# Altium footprint library diodes-inc-packages.PcbLib: 29 footprints (part 2 of 2)
Each footprint in its own frame and in the unit in brackets; x right, y up, seen from the top. Pads: shape width x height; smd on the part's side, far side on the other; paste and mask are expansions set on the pad; w line width, h text height; cw(c..) or ccw(c..) is an arc to the next point about the centre after c.
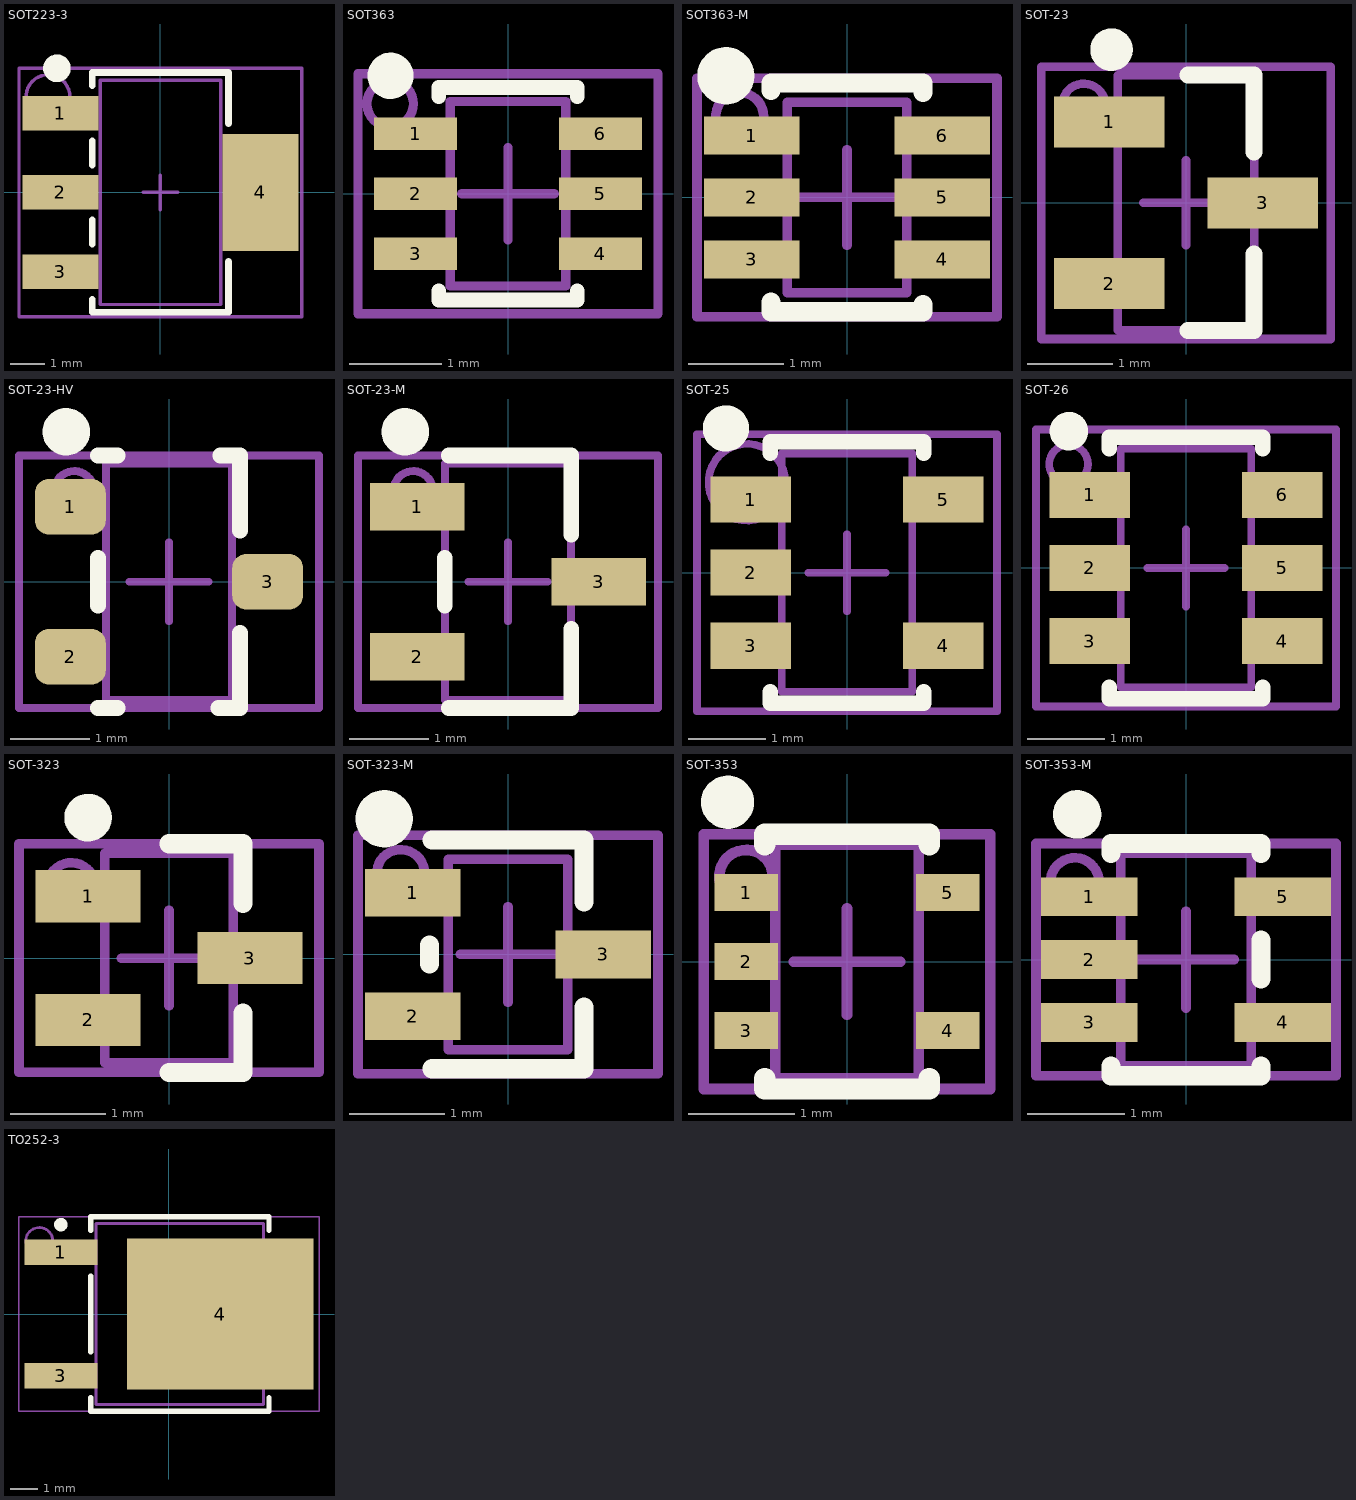
[diagram p1: the footprints below, top view; thin cyan lines are the x and y axes]

## SOT223-3 [mm] "3-Lead Plastic Small Outline Transistor"
height 1.8
pads (4):
  rect 2.2x1 smd: 1(-2.9,2.3) 2(-2.9,0) 3(-2.9,-2.3)
  rect 2.2x3.4 smd: 4(2.9,0)
Top Overlay:
  circle w0.4: c-3,3.6 r0.2
  lines w0.2: -1.975,-3.1 -1.975,-3.475 1.975,-3.475 1.975,-2 ; -1.975,-1.5 -1.975,-0.8 ; -1.975,0.8 -1.975,1.5 ; -1.975,3.1 -1.975,3.475 1.975,3.475 1.975,2
Mechanical 13:
  lines w0.1: -0.5,0 0.5,0 ; 0,-0.5 0,0.5 ; -1.75,-3.25 1.75,-3.25 1.75,3.25 -1.75,3.25 -1.75,-3.25
Mechanical 15:
  circle w0.1: c-3.261,2.775 r0.636
  lines w0.1: -4.1,-3.6 4.1,-3.6 4.1,3.6 -4.1,3.6 -4.1,-3.6
  text ".Designator" at -0.1,2.575 h0.5
3D body "SW3DPS-SOT-223-DEFAULT.step": height 1.66, standoff -0.02, extent -3.48,-3.25 3.48,3.25

## SOT363 [mm] "6-Lead Plastic surface-mounted package, 0.65mm pitch, SOT363/SC-88"
height 1.1
pads (6):
  rect 0.9x0.35 smd: 1(-1,0.65) 2(-1,0) 3(-1,-0.65) 4(1,-0.65) 5(1,0) 6(1,0.65)
Top Overlay:
  circle w0.25: c-1.272,1.278 r0.125
  lines w0.16: -0.75,-1.05 -0.75,-1.15 0.75,-1.15 0.75,-1.05 ; -0.75,1.05 -0.75,1.15 0.75,1.15 0.75,1.05
Mechanical 13:
  lines w0.1: -0.5,0 0.5,0 ; 0,-0.5 0,0.5 ; -0.625,-1 0.625,-1 0.625,1 -0.625,1 -0.625,-1
Mechanical 15:
  circle w0.1: c-1.276,0.975 r0.251
  lines w0.1: -1.625,-1.3 1.625,-1.3 1.625,1.3 -1.625,1.3 -1.625,-1.3
  text ".Designator" at -0.2,1.125 h0.5
3D body "User Library-SW3dPS-SOT363.step": height 1.01, standoff 0.02, extent -1.05,-1 1.05,1

## SOT363-M [mm] "6-Lead Plastic surface-mounted package, 0.65mm pitch, SOT363/SC-88"
height 1.1
pads (6):
  rect 1x0.4 smd: 1(-1,0.65) 2(-1,0) 3(-1,-0.65) 4(1,-0.65) 5(1,0) 6(1,0.65)
Top Overlay:
  circle w0.3: c-1.272,1.278 r0.15
  lines w0.2: -0.8,-1.1 -0.8,-1.2 0.8,-1.2 0.8,-1.125 ; -0.8,1.125 -0.8,1.2 0.8,1.2 0.8,1.1
Mechanical 13:
  lines w0.1: -0.5,0 0.5,0 ; 0,-0.5 0,0.5 ; -0.625,-1 0.625,-1 0.625,1 -0.625,1 -0.625,-1
Mechanical 15:
  circle w0.1: c-1.126,0.85 r0.251
  lines w0.1: -1.575,-1.25 1.575,-1.25 1.575,1.25 -1.575,1.25 -1.575,-1.25
  text ".Designator" at -0.2,1.125 h0.5
3D body "User Library-SW3dPS-SOT363.step": height 1.01, standoff 0.02, extent -1.05,-1 1.05,1

## SOT-23 [mm] "SOT23, 3-Leads, Body 3.0x2.8mm (max), Pitch 0.95mm, IPC High Density"
height 1.4
pads (3):
  rect 1.3x0.6 smd: 1(-0.9,0.95) 2(-0.9,-0.95) 3(0.9,0)
Top Overlay:
  circle w0.25: c-0.875,1.8 r0.125
  lines w0.2: 0.025,-1.5 0.8,-1.5 0.8,-0.6 ; 0.025,1.5 0.8,1.5 0.8,0.6
Mechanical 13:
  lines w0.1: -0.5,0 0.5,0 ; 0,-0.5 0,0.5 ; -0.8,-1.5 0.8,-1.5 0.8,1.5 -0.8,1.5 -0.8,-1.5
Mechanical 15:
  circle w0.1: c-1.201,1.15 r0.251
  lines w0.1: -1.7,-1.6 1.7,-1.6 1.7,1.6 -1.7,1.6 -1.7,-1.6
  text ".Designator" at -0.2,1.325 h0.5
3D body "User Library-sot23-1.step": height 1.02, standoff 0.02, extent -1.17,-1.46 1.17,1.46

## SOT-23-HV [mm] "SOT23, 3-Leads, Body 3.0x2.8mm (max), Pitch 0.95mm, IPC High Density"
height 1.4
pads (3):
  rrect50% 0.9x0.7 smd: 1(-1.25,0.95) 2(-1.25,-0.95) 3(1.25,0)
Top Overlay:
  circle w0.3: c-1.3,1.9 r0.15
  lines w0.2: -0.9,-1.6 -0.65,-1.6 ; -0.9,-0.3 -0.9,0.3 ; -0.9,1.6 -0.65,1.6 ; 0.625,-1.6 0.9,-1.6 0.9,-0.65 ; 0.65,1.6 0.9,1.6 0.9,0.65
Mechanical 13:
  lines w0.1: -0.5,0 0.5,0 ; 0,-0.5 0,0.5 ; -0.8,-1.5 0.8,-1.5 0.8,1.5 -0.8,1.5 -0.8,-1.5
Mechanical 15:
  circle w0.1: c-1.201,1.15 r0.251
  lines w0.1: -1.9,-1.6 1.9,-1.6 1.9,1.6 -1.9,1.6 -1.9,-1.6
  text ".Designator" at -0.2,1.325 h0.8
3D body "User Library-sot23-1.step": height 1.02, standoff 0.02, extent -1.17,-1.46 1.17,1.46

## SOT-23-M [mm] "SOT23, 3-Leads, Body 3.0x2.8mm (max), Pitch 0.95mm, Medium Density"
height 1.4
pads (3):
  rect 1.2x0.6 smd: 1(-1.15,0.95) 2(-1.15,-0.95) 3(1.15,0)
Top Overlay:
  circle w0.3: c-1.3,1.9 r0.15
  lines w0.2: -0.8,-0.3 -0.8,0.3 ; -0.75,-1.6 0.8,-1.6 0.8,-0.6 ; -0.75,1.6 0.8,1.6 0.8,0.6
Mechanical 13:
  lines w0.1: -0.5,0 0.5,0 ; 0,-0.5 0,0.5 ; -0.8,-1.5 0.8,-1.5 0.8,1.5 -0.8,1.5 -0.8,-1.5
Mechanical 15:
  circle w0.1: c-1.201,1.15 r0.251
  lines w0.1: -1.9,-1.6 1.9,-1.6 1.9,1.6 -1.9,1.6 -1.9,-1.6
  text ".Designator" at -0.2,1.325 h0.5
3D body "User Library-sot23-1.step": height 1.02, standoff 0.02, extent -1.17,-1.46 1.17,1.46

## SOT-25 [mm] "5-Lead Plastic Small Outline Transistor - Medium Density"
height 1.45
pads (5):
  rect 1.05x0.6 smd: 1(-1.25,0.95) 2(-1.25,0) 3(-1.25,-0.95) 4(1.25,-0.95) 5(1.25,0.95)
Top Overlay:
  circle w0.3: c-1.575,1.875 r0.15
  lines w0.2: -1,-1.55 -1,-1.7 1,-1.7 1,-1.55 ; -1,1.55 -1,1.7 1,1.7 1,1.55
Mechanical 13:
  lines w0.1: -0.5,0 0.5,0 ; 0,-0.5 0,0.5 ; -0.85,-1.55 -0.85,1.55 0.85,1.55 0.85,-1.55 -0.85,-1.55
Mechanical 15:
  circle w0.1: c-1.3,1.175 r0.499
  lines w0.1: -1.95,-1.8 -1.95,1.8 1.95,1.8 1.95,-1.8 -1.95,-1.8
  text ".Designator" at -0.25,1.5 h0.8
3D body "SW3DPS-SOT-23-5-DEFAULT.STEP": height 1.09, standoff -0.01, extent -1.25,-1.5 1.25,1.5

## SOT-26 [mm] "6-Lead Plastic Small Outline Transistor - Medium Density"
height 1.45
pads (6):
  rect 1.05x0.6 smd: 1(-1.25,0.95) 2(-1.25,0) 3(-1.25,-0.95) 4(1.25,-0.95) 5(1.25,0) 6(1.25,0.95)
Top Overlay:
  circle w0.25: c-1.522,1.778 r0.125
  lines w0.2: -1,-1.55 -1,-1.7 1,-1.7 1,-1.55 ; -1,1.55 -1,1.7 1,1.7 1,1.55
Mechanical 13:
  lines w0.1: -0.5,0 0.5,0 ; 0,-0.5 0,0.5 ; -0.85,-1.55 -0.85,1.55 0.85,1.55 0.85,-1.55 -0.85,-1.55
Mechanical 15:
  circle w0.1: c-1.526,1.35 r0.251
  lines w0.1: -1.95,-1.8 -1.95,1.8 1.95,1.8 1.95,-1.8 -1.95,-1.8
  text ".Designator" at -0.2,1.275 h0.5
3D body "User Library-sot236.step": height 1, standoff 0, extent -1.17,-1.46 1.17,1.46

## SOT-323 [mm] "SC-70/SOT323"
height 1
pads (3):
  rect 1.1x0.55 smd: 1(-0.85,0.65) 2(-0.85,-0.65) 3(0.85,0)
Top Overlay:
  circle w0.25: c-0.85,1.475 r0.125
  lines w0.2: 0,-1.2 0.775,-1.2 0.775,-0.575 ; 0,1.2 0.775,1.2 0.775,0.575
Mechanical 13:
  lines w0.1: -0.5,0 0.5,0 ; 0,-0.5 0,0.5 ; -0.675,-1.1 -0.675,1.1 0.675,1.1 0.675,-1.1 -0.675,-1.1
Mechanical 15:
  circle w0.1: c-1.026,0.75 r0.251
  lines w0.1: -1.575,-1.2 -1.575,1.2 1.575,1.2 1.575,-1.2 -1.575,-1.2
  text ".Designator" at -0.225,0.975 h0.5
3D body "User Library-SC-70.STEP": height 1.13, standoff 0.02, extent -1.125,-1.125 1.125,1.125

## SOT-323-M [mm] "6-Lead Plastic surface-mounted package, 0.65mm pitch, SOT363/SC-88"
height 1.1
pads (3):
  rect 1x0.5 smd: 1(-1,0.65) 2(-1,-0.65) 3(1,0)
Top Overlay:
  circle w0.3: c-1.3,1.425 r0.15
  lines w0.2: -0.825,-0.1 -0.825,0.1 ; -0.8,-1.2 0.8,-1.2 0.8,-0.55 ; -0.8,1.2 0.8,1.2 0.8,0.55
Mechanical 13:
  lines w0.1: -0.5,0 0.5,0 ; 0,-0.5 0,0.5 ; -0.625,-1 0.625,-1 0.625,1 -0.625,1 -0.625,-1
Mechanical 15:
  circle w0.1: c-1.126,0.85 r0.251
  lines w0.1: -1.575,-1.25 1.575,-1.25 1.575,1.25 -1.575,1.25 -1.575,-1.25
  text ".Designator" at -0.2,1.125 h0.8
3D body "User Library-SC-70.STEP": height 1.13, standoff 0.02, extent -1.125,-1.125 1.125,1.125

## SOT-353 [mm] "SOT23, 5-Leads, Body 2.2x2.2mm (max), Pitch 0.65mm, IPC High Density"
height 1.1
pads (5):
  rect 0.6x0.35 smd: 1(-0.95,0.65) 2(-0.95,0) 3(-0.95,-0.65) 4(0.95,-0.65) 5(0.95,0.65)
Top Overlay:
  circle w0.25: c-1.125,1.5 r0.125
  lines w0.2: -0.775,-1.1 -0.775,-1.2 0.775,-1.2 0.775,-1.1 ; -0.775,1.1 -0.775,1.2 0.775,1.2 0.775,1.1
Mechanical 13:
  lines w0.1: -0.5,0 0.5,0 ; 0,-0.5 0,0.5 ; -0.675,-1.1 -0.675,1.1 0.675,1.1 0.675,-1.1 -0.675,-1.1
Mechanical 15:
  circle w0.1: c-0.951,0.8 r0.251
  lines w0.1: -1.35,-1.2 -1.35,1.2 1.35,1.2 1.35,-1.2 -1.35,-1.2
  text ".Designator" at -0.225,0.975 h0.5
3D body "SC70-5.step": height 0.95, standoff -0.02, extent -1.1,-1 1.1,1

## SOT-353-M [mm] "SOT23, 5-Leads, Body 2.2x2.2mm (max), Pitch 0.65mm, IPC High Density"
height 1.1
pads (5):
  rect 1x0.4 smd: 1(-1,0.65) 2(-1,0) 3(-1,-0.65) 4(1,-0.65) 5(1,0.65)
Top Overlay:
  circle w0.25: c-1.125,1.5 r0.125
  lines w0.2: -0.775,-1.1 -0.775,-1.2 0.775,-1.2 0.775,-1.1 ; -0.775,1.1 -0.775,1.2 0.775,1.2 0.775,1.1 ; 0.775,-0.2 0.775,0.2
Mechanical 13:
  lines w0.1: -0.5,0 0.5,0 ; 0,-0.5 0,0.5 ; -0.675,-1.1 -0.675,1.1 0.675,1.1 0.675,-1.1 -0.675,-1.1
Mechanical 15:
  circle w0.1: c-1.15,0.8 r0.251
  lines w0.1: -1.55,-1.2 -1.55,1.2 1.55,1.2 1.55,-1.2 -1.55,-1.2
  text ".Designator" at -0.225,0.975 h0.5
3D body "SC70-5.step": height 0.95, standoff -0.02, extent -1.1,-1 1.1,1

## TO252-3 [mm] "D-PAK, 3-Pads, Body 6.20x6.72mm (max), IPC Medium Density"
height 2.38
pads (3):
  rect 2.7x0.95 smd: 1(-4,2.28) 3(-4,-2.28)
  rect 6.9x5.6 smd: 4(1.9,0)
Top Overlay:
  circle w0.25: c-4,3.305 r0.125
  lines w0.2: -2.9,-3.1 -2.9,-3.6 3.7,-3.6 3.7,-3.1 ; -2.9,-1.4 -2.9,1.4 ; -2.9,3.1 -2.9,3.6 3.7,3.6 3.7,3.1
Mechanical 13:
  lines w0.1: -0.5,0 0.5,0 ; 0,-0.5 0,0.5 ; -2.7,-3.35 -2.7,3.35 3.5,3.35 3.5,-3.35 -2.7,-3.35
Mechanical 15:
  circle w0.1: c-4.8,2.7 r0.5
  lines w0.05: -5.55,-3.6 -5.55,3.6 5.55,3.6 5.55,-3.6 -5.55,-3.6
  text ".Designator" at 0.2,-2.125 h0.5
3D body "User Library-DPAK-1.step": height 2.39, standoff -0.02, extent -4.938,-3.27 5,3.27